# EAGLE library part 27C040 (library A-14732-40009)
EPROM memory in DIP32 package
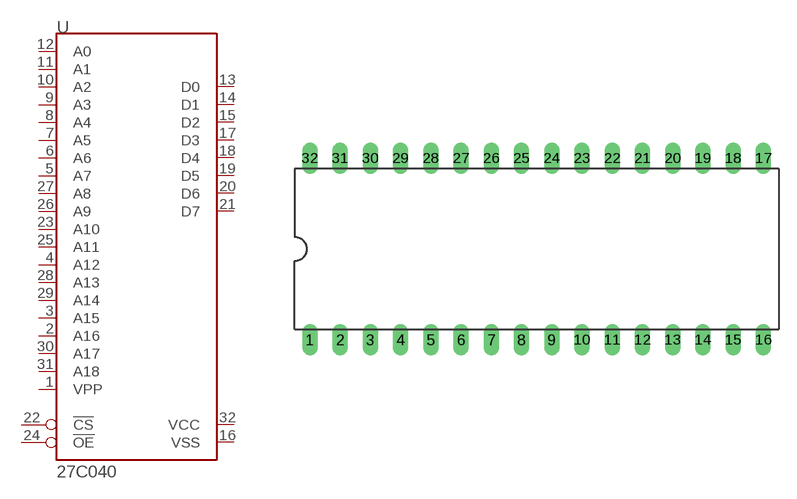
[diagram p3: symbol with the pads of DIP32; footprint DIP32]

Designator prefix U

## 27C040  [DIP32]
1  VPP  pas
2  A16  pas
3  A15  pas
4  A12  pas
5  A7  pas
6  A6  pas
7  A5  pas
8  A4  pas
9  A3  pas
10  A2  pas
11  A1  pas
12  A0  pas
13  D0  pas
14  D1  pas
15  D2  pas
16  VSS  pas
17  D3  pas
18  D4  pas
19  D5  pas
20  D6  pas
21  D7  pas
22  !CS  pas
23  A10  pas
24  !OE  pas
25  A11  pas
26  A9  pas
27  A8  pas
28  A13  pas
29  A14  pas
30  A17  pas
31  A18  pas
32  VCC  pas

## Footprint DIP32 (pad centres in mm)
Dual In Line Package 32 pin
drill 0.813 long: 1 -19.05,-7.62; 2 -16.51,-7.62; 3 -13.97,-7.62; 4 -11.43,-7.62; 5 -8.89,-7.62; 6 -6.35,-7.62; 7 -3.81,-7.62; 8 -1.27,-7.62; 9 1.27,-7.62; 10 3.81,-7.62; 11 6.35,-7.62; 12 8.89,-7.62; 13 11.43,-7.62; 14 13.97,-7.62; 15 16.51,-7.62; 16 19.05,-7.62; 17 19.05,7.62; 18 16.51,7.62; 19 13.97,7.62; 20 11.43,7.62; 21 8.89,7.62; 22 6.35,7.62; 23 3.81,7.62; 24 1.27,7.62; 25 -1.27,7.62; 26 -3.81,7.62; 27 -6.35,7.62; 28 -8.89,7.62; 29 -11.43,7.62; 30 -13.97,7.62; 31 -16.51,7.62; 32 -19.05,7.62